# Altium integrated library BME280.IntLib: 1 symbol
Pins are listed as number, name and electrical type; pins without a type are passive.

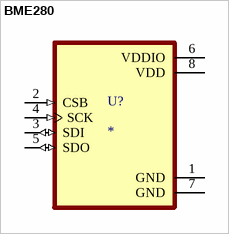
[diagram p0: symbol BME280]

## BME280
designator U?
DIGITAL HUMIDITY, PRESSURE AND TEMPERATURE SENSOR<br>* Digital interface IÂ²C (up to 3.4 MHz) and SPI (3 and 4 wire, up to 10 MHz)* Supply voltage VDD main supply voltage range: 1.71 V to 3.6 V*VDDIO interface voltage range: 1.2 V to 3.6 V<br> Operating range -40â€¦+85 Â°C, 0â€¦100 % rel. humidity, 300â€¦1100 hPa <br><br>  The library has been designed by<a href="https://www.facebook.com/groups/eaglecadsoftUK"> Richard Magdycz</a>; MP: BME280; Package: None; Availability: Unavailable; Value: *; Price: None
footprint PSON65P250X250X100-8N
pins: 1 GND (power), 2 CSB (in), 3 SDI (io), 4 SCK (in), 5 SDO (io), 6 VDDIO (power), 7 GND (power), 8 VDD (power)